# Altium footprint library NanoFit4pos.PcbLib: 1 footprints
Each footprint in its own frame and in the unit in brackets; x right, y up, seen from the top. Pads: shape width x height; smd on the part's side, far side on the other; paste and mask are expansions set on the pad; w line width, h text height; cw(c..) or ccw(c..) is an arc to the next point about the centre after c.
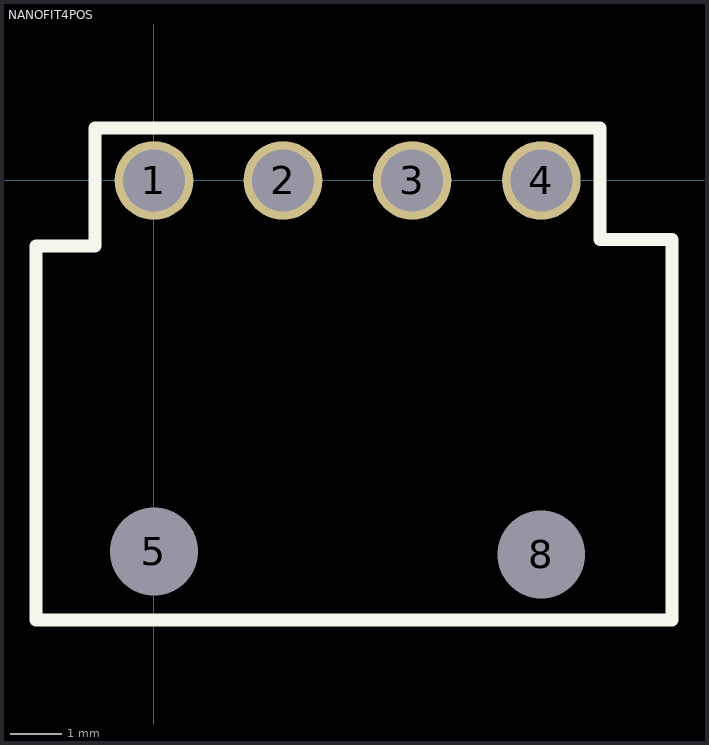
[diagram p0: the footprint, top view; thin cyan lines are the x and y axes]

## NANOFIT4POS [mil]
pads (6):
  round 60 hole 47.24: 1(0,0) 2(98.43,0) 3(196.85,0) 4(295.28,0)
  round 60 hole 66.93: 5(0,-282.68) 8(295.28,-285)
Top Overlay:
  lines w10: -90,-335 290,-335 395,-335 395,-45 340,-45 340,40 250,40 -45,40 -45,-50 -90,-50 -90,-335
3D body "1053131204.stp": height 255.51, standoff -131.89, extent -68.5,-466.14 362.21,12.51